# EAGLE library part AD624 (library polrus)
High precission operetional aplifier
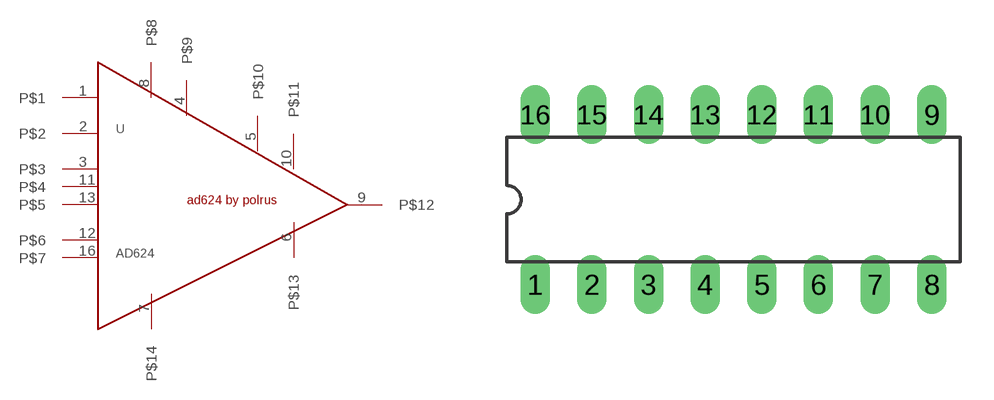
[diagram p0: symbol with the pads of DIP16; footprint DIP16]

Designator prefix -

## AD624  [DIP16]
1  P$1  in
2  P$2
3  P$3
4  P$9
5  P$10
6  P$13
7  P$14
8  P$8
9  P$12  in
10  P$11
11  P$4
12  P$6
13  P$5
16  P$7

## Footprint DIP16 (pad centres in mm)
drill 0.813 long: 1 -7.62,-3.81; 2 -5.08,-3.81; 3 -2.54,-3.81; 4 0,-3.81; 5 2.54,-3.81; 6 5.08,-3.81; 7 7.62,-3.81; 8 10.16,-3.81; 9 10.16,3.81; 10 7.62,3.81; 11 5.08,3.81; 12 2.54,3.81; 13 0,3.81; 14 -2.54,3.81; 15 -5.08,3.81; 16 -7.62,3.81